# Altium schematic symbol library ATSAME70N21A-AN.Schlib: 1 symbol
Pins are listed as number, name and electrical type; pins without a type are passive.

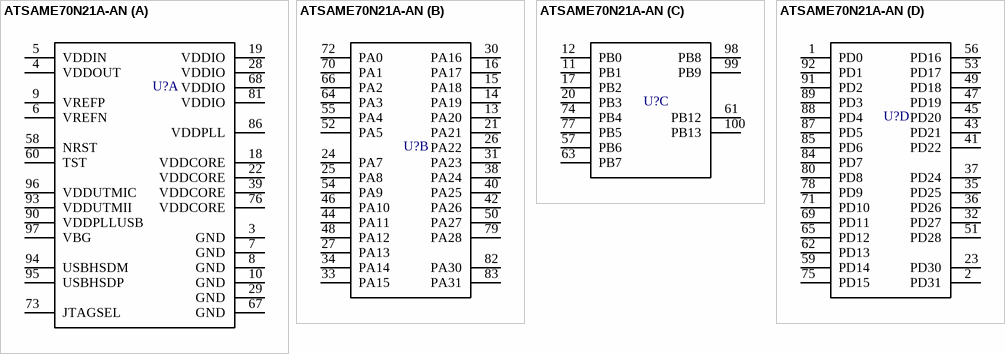
[diagram p0: symbol ATSAME70N21A-AN]

## ATSAME70N21A-AN
designator U?  (value not drawn)
Atmel SAM E70 100 pin
part A pins: 3 GND (power), 4 VDDOUT (power), 5 VDDIN (power), 6 VREFN (power), 7 GND (power), 8 GND (power), 9 VREFP (power), 10 GND (power), 18 VDDCORE (power), 19 VDDIO (power), 22 VDDCORE (power), 28 VDDIO (power), 29 GND (power), 39 VDDCORE (power), 58 NRST (power), 60 TST (power), 67 GND (power), 68 VDDIO (power), 73 JTAGSEL (power), 76 VDDCORE (power), 81 VDDIO (power), 86 VDDPLL (power), 90 VDDPLLUSB (power), 93 VDDUTMII (power), 94 USBHSDM (power), 95 USBHSDP (power), 96 VDDUTMIC (power), 97 VBG (power)
part B pins: 13 PA20, 14 PA19, 15 PA18, 16 PA17, 21 PA21, 24 PA7, 25 PA8, 26 PA22, 27 PA13, 30 PA16, 31 PA23, 33 PA15, 34 PA14, 38 PA24, 40 PA25, 42 PA26, 44 PA11, 46 PA10, 48 PA12, 50 PA27, 52 PA5, 54 PA9, 55 PA4, 64 PA3, 66 PA2, 70 PA1, 72 PA0, 79 PA28, 82 PA30, 83 PA31
part C pins: 11 PB1, 12 PB0, 17 PB2, 20 PB3, 57 PB6, 61 PB12, 63 PB7, 74 PB4, 77 PB5, 98 PB8, 99 PB9, 100 PB13
part D pins: 1 PD0, 2 PD31, 23 PD30, 32 PD27, 35 PD25, 36 PD26, 37 PD24, 41 PD22, 43 PD21, 45 PD20, 47 PD19, 49 PD18, 51 PD28, 53 PD17, 56 PD16, 59 PD14, 62 PD13, 65 PD12, 69 PD11, 71 PD10, 75 PD15, 78 PD9, 80 PD8, 84 PD7, 85 PD6, 87 PD5, 88 PD4, 89 PD3, 91 PD2, 92 PD1